# EAGLE library part MICROUSB-47589-0001 (library BLE112 Breakout Board v2.1-non-prefixed)
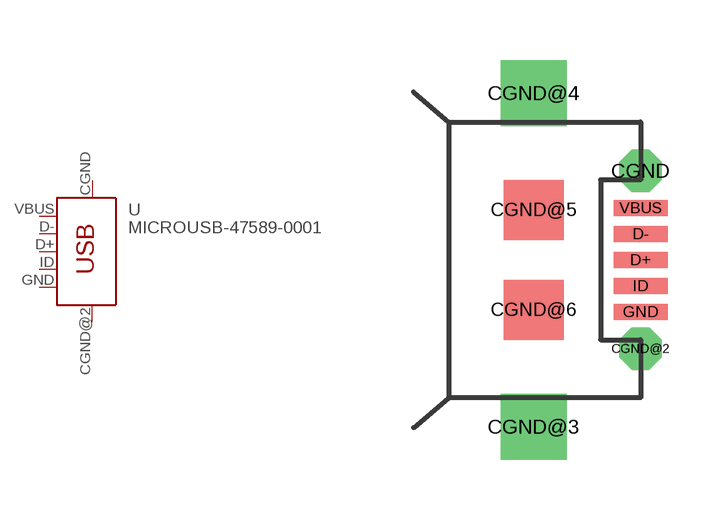
[diagram p2: symbol with the pads of MICROUSB-47589-0001; footprint MICROUSB-47589-0001]

Designator prefix -

## MICROUSB-47589-0001  [MICROUSB-47589-0001]
CGND  MTN2
CGND@2  MTN4
D+  D+
D-  D-
GND  GND
ID  ID
VBUS  VBUS

## Footprint MICROUSB-47589-0001 (pad centres in mm)
drill 0.55 pad 1 octagon: CGND 0,2.225; CGND@2 0,-2.225
drill 1.1 pad 1.6 square: CGND@3 -2.675,-4.175; CGND@4 -2.675,4.175
smd 1.5 x 1.5: CGND@5 -2.675,1.25; CGND@6 -2.675,-1.25
smd 1.35 x 0.4: D+ 0,0; D- 0,0.65; GND 0,-1.3; ID 0,-0.65; VBUS 0,1.3